# EAGLE library part JTAG (library r2p_connector)
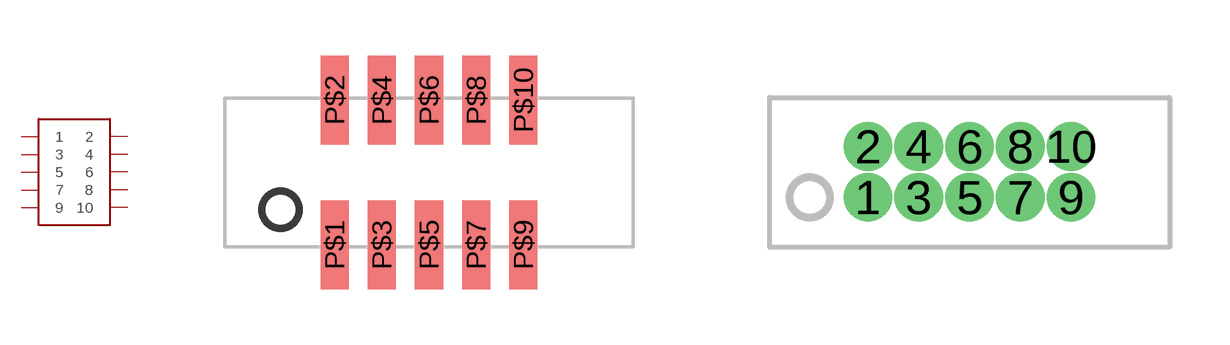
[diagram p0: symbol with the pads of SAMTEC_FTSH-105; footprints SAMTEC_FTSH-105, SAMTEC_FTSH-105-TH]

Designator prefix -

## JTAG-SMD  [SAMTEC_FTSH-105]
P$1  1
P$2  2
P$3  3
P$4  4
P$5  5
P$6  6
P$7  7
P$8  8
P$9  9
P$10  10

## JTAG-TH  [SAMTEC_FTSH-105-TH]
1  1
2  2
3  3
4  4
5  5
6  6
7  7
8  8
9  9
10  10

## Footprint SAMTEC_FTSH-105 (pad centres in mm)
smd 0.76 x 2.4: P$1 -2.54,-1.95; P$2 -2.54,1.95; P$3 -1.27,-1.95; P$4 -1.27,1.95; P$5 0,-1.95; P$6 0,1.95; P$7 1.27,-1.95; P$8 1.27,1.95; P$9 2.54,-1.95; P$10 2.54,1.95

## Footprint SAMTEC_FTSH-105-TH (pad centres in mm)
drill 0.711 pad 1.016: 1 -2.54,0; 2 -2.54,1.27; 3 -1.27,0; 4 -1.27,1.27; 5 0,0; 6 0,1.27; 7 1.27,0; 8 1.27,1.27; 9 2.54,0; 10 2.54,1.27